# EAGLE library part 418217170908 (library EAGLE-TACT_SWITCHES-rev17c)
WS-RA 2.54 mm right angled compact THT Dip Switch with flat actuator, 8 Pole
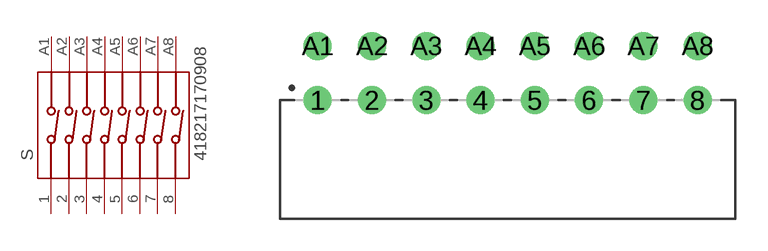
[diagram p57: symbol with the pads of 418217170908; footprint 418217170908]

Designator prefix S

## 418217170908  [418217170908]
1  1  pas
2  2  pas
3  3  pas
4  4  pas
5  5  pas
6  6  pas
7  7  pas
8  8  pas
A1  A1  pas
A2  A2  pas
A3  A3  pas
A4  A4  pas
A5  A5  pas
A6  A6  pas
A7  A7  pas
A8  A8  pas

## Footprint 418217170908 (pad centres in mm)
WS-RA 2.54 mm right angled compact THT Dip Switch with flat actuator, 8 Pole
drill 0.8: 1 -8.89,-1.27; 2 -6.35,-1.27; 3 -3.81,-1.27; 4 -1.27,-1.27; 5 1.27,-1.27; 6 3.81,-1.27; 7 6.35,-1.27; 8 8.89,-1.27; A1 -8.89,1.27; A2 -6.35,1.27; A3 -3.81,1.27; A4 -1.27,1.27; A5 1.27,1.27; A6 3.81,1.27; A7 6.35,1.27; A8 8.89,1.27